# Altium schematic symbol library TPS7A3301.SchLib: 2 symbols
Pins are listed as number, name and electrical type; pins without a type are passive.

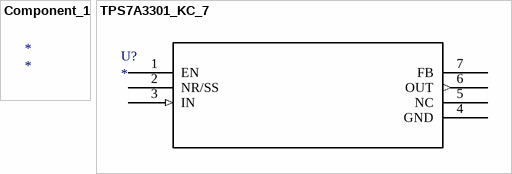
[diagram p0: symbols Component_1 to TPS7A3301_KC_7]

## Component_1
designator *

## TPS7A3301_KC_7
designator U?
Imported; Manufacturer_Part_Number: tps7a3301_kc_7; GENERIC_PART_NUMBER: TPS7A3301; Vendor: Texas Instruments; PACKAGE_DESIGNATOR: KC; PIN_COUNT: 7; FAMILY_NAME: SINGLE CHANNEL LDO; INDUSTRY_STD_PKG_TYPE: TO-220; Datasheet URL: http://www.ti.com/lit/gpn/TPS7A3301; Manufacturer: Texas Instruments; RefDes: RefDes; Type: DEV; Value: Value
footprint KC7
pins: 1 EN, 2 NR/SS, 3 IN (in), 4 GND (power), 5 NC, 6 OUT (out), 7 FB